# Altium footprint library CAN_Test_Runner.PcbLib: 34 footprints (part 2 of 3)
Each footprint in its own frame and in the unit in brackets; x right, y up, seen from the top. Pads: shape width x height; smd on the part's side, far side on the other; paste and mask are expansions set on the pad; w line width, h text height; cw(c..) or ccw(c..) is an arc to the next point about the centre after c.
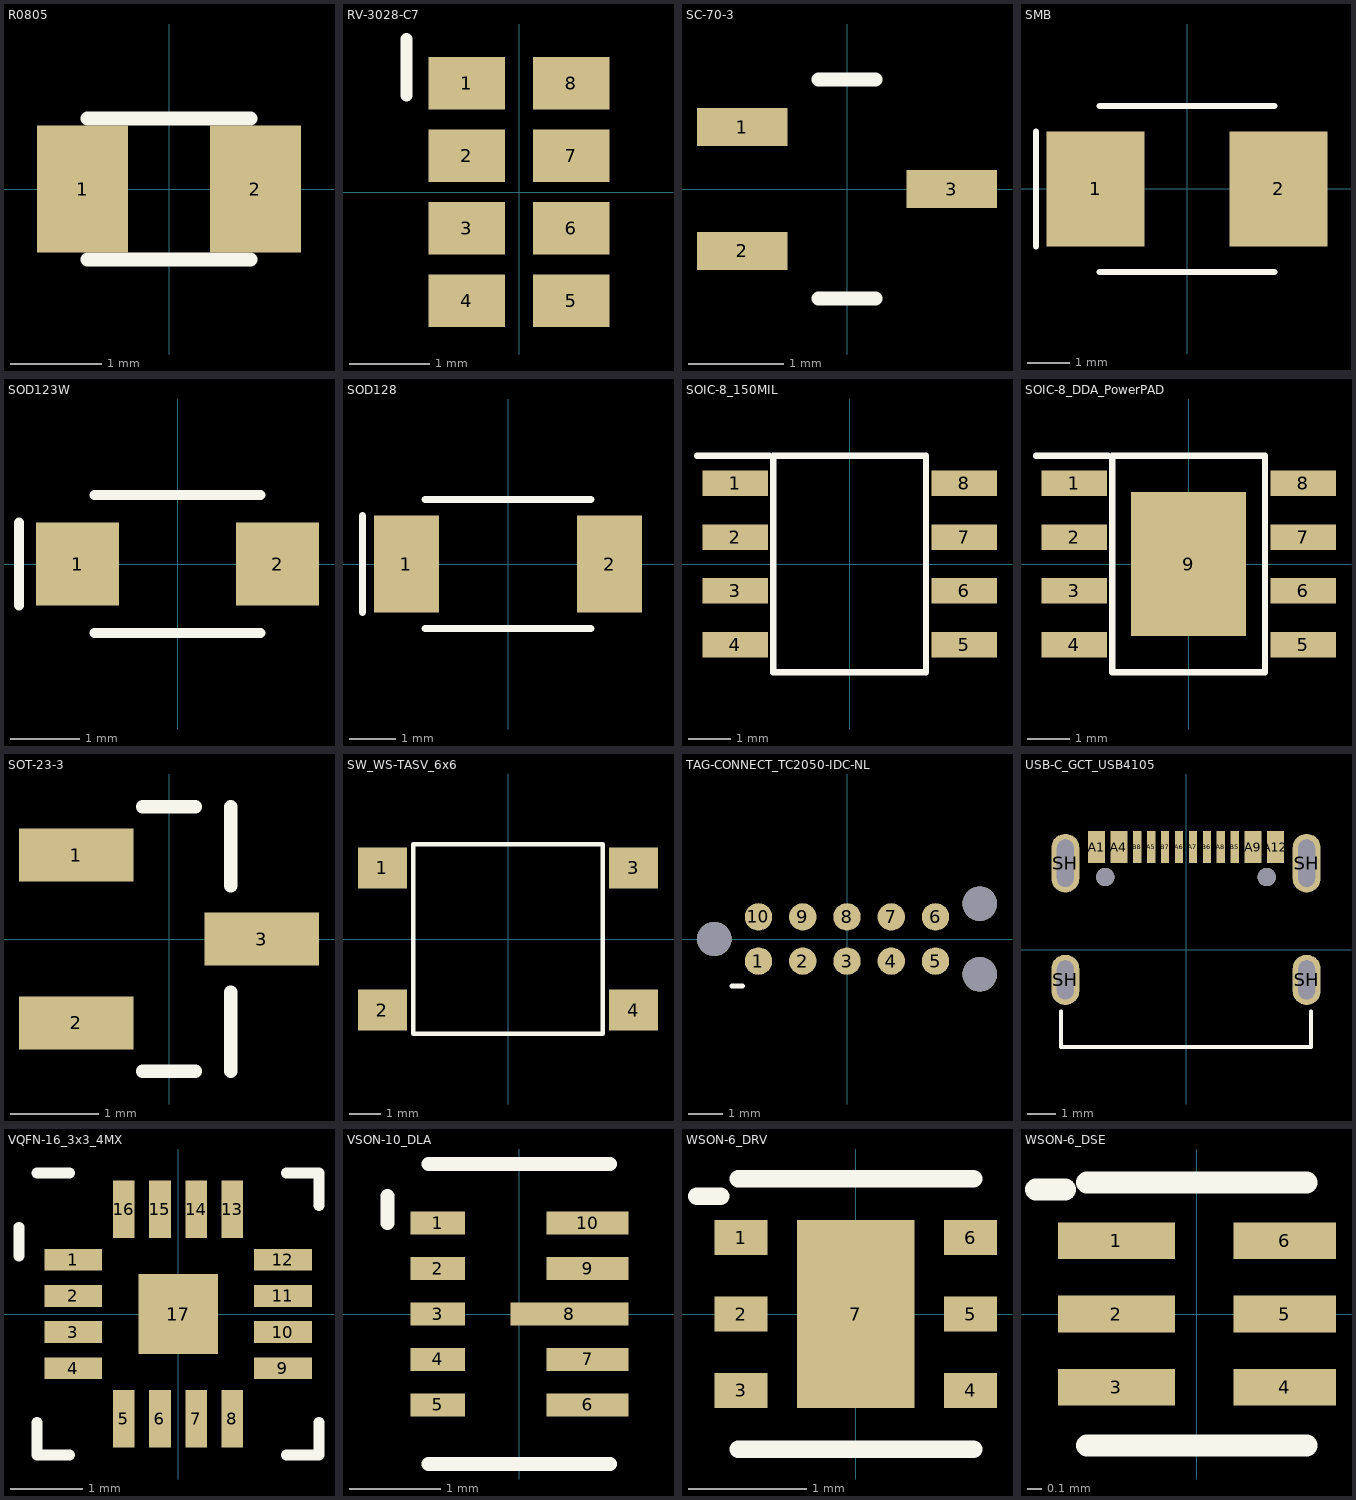
[diagram p1: the footprints below, top view; thin cyan lines are the x and y axes]

## R0805 [mm] "0805 resistor, IPC-7351 nominal"
height 0.6
pads (2):
  rect 1x1.4 smd: 1(-0.95,0) 2(0.95,0)
Top Overlay:
  lines w0.15: -0.9,-0.775 0.9,-0.775 ; -0.9,0.775 0.9,0.775

## RV-3028-C7 [mm] "Micro Crystal C7 package 3.2 x 1.5, datasheet recommended pad, x-check KiCad"
height 0.8
pads (8):
  rect 0.95x0.65 smd: 1(-0.65,1.35) 2(-0.65,0.45) 3(-0.65,-0.45) 4(-0.65,-1.35) 5(0.65,-1.35) 6(0.65,-0.45) 7(0.65,0.45) 8(0.65,1.35)
Top Overlay:
  lines w0.15: -1.4,1.2 -1.4,1.9

## SC-70-3 [mm] "SC-70-3, TI DCK0003A land pattern"
height 1.1
pads (3):
  rect 0.95x0.4 smd: 1(-1.1,0.65) 2(-1.1,-0.65) 3(1.1,0)
Top Overlay:
  lines w0.15: -0.3,-1.15 0.3,-1.15 ; -0.3,1.15 0.3,1.15

## SMB [mm] "DO-214AA (SMB), Bourns recommended footprint, pad 1 = cathode"
height 2.4
pads (2):
  rect 2.3x2.7 smd: 1(-2.15,0) 2(2.15,0)
Top Overlay:
  lines w0.15: -3.55,-1.35 -3.55,1.35 ; -2.05,-1.95 2.05,-1.95 ; -2.05,1.95 2.05,1.95

## SOD123W [mm] "Nexperia CFP3/SOD123W reflow footprint, pad 1 = cathode"
height 1.1
pads (2):
  rect 1.2x1.2 smd: 1(-1.45,0) 2(1.45,0)
Top Overlay:
  lines w0.15: -2.3,-0.6 -2.3,0.6 ; -1.2,-1 1.2,-1 ; -1.2,1 1.2,1

## SOD128 [mm] "Nexperia CFP5/SOD128 reflow footprint, pad 1 = cathode"
height 1.1
pads (2):
  rect 1.4x2.1 smd: 1(-2.2,0) 2(2.2,0)
Top Overlay:
  lines w0.15: -3.15,-1.05 -3.15,1.05 ; -1.8,-1.4 1.8,-1.4 ; -1.8,1.4 1.8,1.4

## SOIC-8_150MIL [mm] "8-lead SOIC 150 mil, Microchip C04-2065 land pattern"
height 1.75
pads (8):
  rect 1.55x0.6 smd: 1(-2.7,1.905) 2(-2.7,0.635) 3(-2.7,-0.635) 4(-2.7,-1.905) 5(2.7,-1.905) 6(2.7,-0.635) 7(2.7,0.635) 8(2.7,1.905)
Top Overlay:
  lines w0.15: -3.6,2.55 -1.9,2.55 ; -1.8,-2.55 1.8,-2.55 1.8,2.55 -1.8,2.55 -1.8,-2.55

## SOIC-8_DDA_PowerPAD [mm] "TI DDA0008B PowerPAD SOIC-8, TI example board layout"
height 1.75
pads (9):
  rect 1.55x0.6 smd: 1(-2.7,1.905) 2(-2.7,0.635) 3(-2.7,-0.635) 4(-2.7,-1.905) 5(2.7,-1.905) 6(2.7,-0.635) 7(2.7,0.635) 8(2.7,1.905)
  rect 2.71x3.4 smd: 9(0,0)
Top Overlay:
  lines w0.15: -3.6,2.55 -1.9,2.55 ; -1.8,-2.55 1.8,-2.55 1.8,2.55 -1.8,2.55 -1.8,-2.55

## SOT-23-3 [mm] "SOT-23-3, TI DBZ0003A land pattern (also Nexperia TO-236AB parts)"
height 1.1
pads (3):
  rect 1.3x0.6 smd: 1(-1.05,0.95) 2(-1.05,-0.95) 3(1.05,0)
Top Overlay:
  lines w0.15: -0.3,-1.5 0.3,-1.5 ; -0.3,1.5 0.3,1.5 ; 0.7,-1.5 0.7,-0.6 ; 0.7,0.6 0.7,1.5

## SW_WS-TASV_6x6 [mm] "Wurth WS-TASV 6 x 6 mm tact switch, SMD"
height 5
pads (4):
  rect 1.55x1.3 smd: 1(-3.975,2.25) 2(-3.975,-2.25) 3(3.975,2.25) 4(3.975,-2.25)
Top Overlay:
  lines w0.15: -3,-3 3,-3 3,3 -3,3 -3,-3

## TAG-CONNECT_TC2050-IDC-NL [mm] "Tag-Connect TC2050-IDC-NL, Cortex 10-pin SWD, no legs"
pads (13):
  round 0.787 smd: 1(-2.54,-0.635) 2(-1.27,-0.635) 3(0,-0.635) 4(1.27,-0.635) 5(2.54,-0.635) 6(2.54,0.635) 7(1.27,0.635) 8(0,0.635) 9(-1.27,0.635) 10(-2.54,0.635)
  round 0.99 hole 0.99 unplated: ""(-3.81,0) ""(3.81,-1.016) ""(3.81,1.016)
Top Overlay:
  lines w0.15: -3.3,-1.35 -3,-1.35

## USB-C_GCT_USB4105 [mm] "GCT USB4105 USB-C 2.0 receptacle, top mount; board edge at y = -3.475"
height 3.3
pads (18):
  rect 0.6x1.15 smd: A1(-3.2,3.68) A4(-2.4,3.68) A9(2.4,3.68) A12(3.2,3.68)
  rect 0.3x1.15 smd: A5(-1.25,3.68) A6(-0.25,3.68) A7(0.25,3.68) A8(1.25,3.68) B5(1.75,3.68) B6(0.75,3.68) B7(-0.75,3.68) B8(-1.75,3.68)
  oval 1x1.8 hole 0.6 slot 1.4 at 90 deg: SH(-4.32,-1.075) SH(4.32,-1.075)
  oval 1x2.1 hole 0.6 slot 1.7 at 90 deg: SH(-4.32,3.105) SH(4.32,3.105)
  round 0.65 hole 0.65 unplated: ""(-2.89,2.605) ""(2.89,2.605)
Top Overlay:
  lines w0.15: -4.47,-2.2 -4.47,-3.475 4.47,-3.475 4.47,-2.2

## VQFN-16_3x3_4MX [mm] "Microchip VQFN-16 3x3 (4MX), drawing C04-2508"
height 0.9
pads (17):
  rect 0.8x0.3 smd: 1(-1.45,0.75) 2(-1.45,0.25) 3(-1.45,-0.25) 4(-1.45,-0.75) 9(1.45,-0.75) 10(1.45,-0.25) 11(1.45,0.25) 12(1.45,0.75)
  rect 0.3x0.8 smd: 5(-0.75,-1.45) 6(-0.25,-1.45) 7(0.25,-1.45) 8(0.75,-1.45) 13(0.75,1.45) 14(0.25,1.45) 15(-0.25,1.45) 16(-0.75,1.45)
  rect 1.1x1.1 smd: 17(0,0)
Top Overlay:
  lines w0.15: -2.2,0.8 -2.2,1.2 ; -1.95,-1.5 -1.95,-1.95 -1.5,-1.95 ; -1.95,1.95 -1.5,1.95 ; 1.5,-1.95 1.95,-1.95 1.95,-1.5 ; 1.5,1.95 1.95,1.95 1.95,1.5

## VSON-10_DLA [mm] "TI DLA0010A VSON-HR 2x3, TI example board layout"
height 1
pads (10):
  rect 0.6x0.25 smd: 1(-0.9,1) 2(-0.9,0.5) 3(-0.9,0) 4(-0.9,-0.5) 5(-0.9,-1)
  rect 0.9x0.25 smd: 6(0.75,-1) 7(0.75,-0.5) 9(0.75,0.5) 10(0.75,1)
  rect 1.3x0.25 smd: 8(0.55,0)
Top Overlay:
  lines w0.15: -1.45,1 -1.45,1.3 ; -1,-1.65 1,-1.65 ; -1,1.65 1,1.65

## WSON-6_DRV [mm] "TI DRV0006A WSON-6 2x2, TI example board layout"
height 0.8
pads (7):
  rect 0.45x0.3 smd: 1(-0.975,0.65) 2(-0.975,0) 3(-0.975,-0.65) 4(0.975,-0.65) 5(0.975,0) 6(0.975,0.65)
  rect 1x1.6 smd: 7(0,0)
Top Overlay:
  lines w0.15: -1.35,1 -1.15,1 ; -1,-1.15 1,-1.15 ; -1,1.15 1,1.15

## WSON-6_DSE [mm] "TI DSE0006A WSON-6 1.5x1.5, TI example board layout"
height 0.8
pads (6):
  rect 0.8x0.25 smd: 1(-0.55,0.5) 2(-0.55,0) 3(-0.55,-0.5)
  rect 0.7x0.25 smd: 4(0.6,-0.5) 5(0.6,0) 6(0.6,0.5)
Top Overlay:
  lines w0.15: -1.1,0.85 -0.9,0.85 ; -0.75,-0.9 0.75,-0.9 ; -0.75,0.9 0.75,0.9